# EAGLE library part STM32F407-VGT6 (library CPSS_CPU)
High-performance foundation line, Arm Cortex-M4 core with DSP and FPU, 1 Mbyte of Flash memory, 168 MHz CPU, ART Accelerator, Ethernet, FSMC
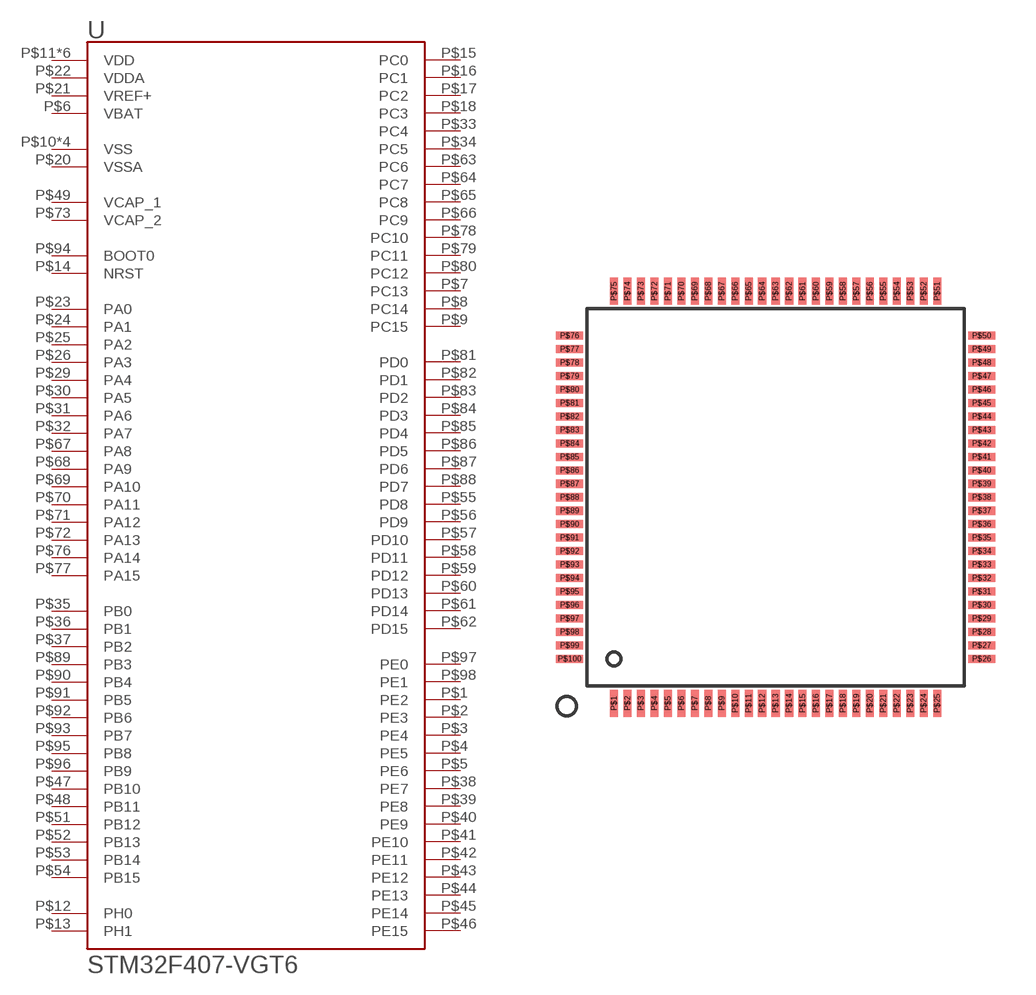
[diagram p5: symbol with the pads of LQFP-100; footprint LQFP-100]

Designator prefix U

## STM32F407-VGT6  [LQFP-100]
P$1  PE2
P$2  PE3
P$3  PE4
P$4  PE5
P$5  PE6
P$6  VBAT
P$7  PC13
P$8  PC14
P$9  PC15
P$10  VSS
P$11  VDD
P$12  PH0
P$13  PH1
P$14  NRST
P$15  PC0
P$16  PC1
P$17  PC2
P$18  PC3
P$19  VDD
P$20  VSSA
P$21  VREF+
P$22  VDDA
P$23  PA0
P$24  PA1
P$25  PA2
P$26  PA3
P$27  VSS
P$28  VDD
P$29  PA4
P$30  PA5
P$31  PA6
P$32  PA7
P$33  PC4
P$34  PC5
P$35  PB0
P$36  PB1
P$37  PB2
P$38  PE7
P$39  PE8
P$40  PE9
P$41  PE10
P$42  PE11
P$43  PE12
P$44  PE13
P$45  PE14
P$46  PE15
P$47  PB10
P$48  PB11
P$49  VCAP_1
P$50  VDD
P$51  PB12
P$52  PB13
P$53  PB14
P$54  PB15
P$55  PD8
P$56  PD9
P$57  PD10
P$58  PD11
P$59  PD12
P$60  PD13
P$61  PD14
P$62  PD15
P$63  PC6
P$64  PC7
P$65  PC8
P$66  PC9
P$67  PA8
P$68  PA9
P$69  PA10
P$70  PA11
P$71  PA12
P$72  PA13
P$73  VCAP_2
P$74  VSS
P$75  VDD
P$76  PA14
P$77  PA15
P$78  PC10
P$79  PC11
P$80  PC12
P$81  PD0
P$82  PD1
P$83  PD2
P$84  PD3
P$85  PD4
P$86  PD5
P$87  PD6
P$88  PD7
P$89  PB3
P$90  PB4
P$91  PB5
P$92  PB6
P$93  PB7
P$94  BOOT0
P$95  PB8
P$96  PB9
P$97  PE0
P$98  PE1
P$99  VSS
P$100  VDD

## Footprint LQFP-100 (pad centres in mm)
smd 0.3 x 1: P$1 -6,-7.65; P$2 -5.5,-7.65; P$3 -5,-7.65; P$4 -4.5,-7.65; P$5 -4,-7.65; P$6 -3.5,-7.65; P$7 -3,-7.65; P$8 -2.5,-7.65; P$9 -2,-7.65; P$10 -1.5,-7.65; P$11 -1,-7.65; P$12 -0.5,-7.65; P$13 0,-7.65; P$14 0.5,-7.65; P$15 1,-7.65; P$16 1.5,-7.65; P$17 2,-7.65; P$18 2.5,-7.65; P$19 3,-7.65; P$20 3.5,-7.65; P$21 4,-7.65; P$22 4.5,-7.65; P$23 5,-7.65; P$24 5.5,-7.65; P$25 6,-7.65; P$51 6,7.65; P$52 5.5,7.65; P$53 5,7.65; P$54 4.5,7.65; P$55 4,7.65; P$56 3.5,7.65; P$57 3,7.65; P$58 2.5,7.65; P$59 2,7.65; P$60 1.5,7.65; P$61 1,7.65; P$62 0.5,7.65; P$63 0,7.65; P$64 -0.5,7.65; P$65 -1,7.65; P$66 -1.5,7.65; P$67 -2,7.65; P$68 -2.5,7.65; P$69 -3,7.65; P$70 -3.5,7.65; P$71 -4,7.65; P$72 -4.5,7.65; P$73 -5,7.65; P$74 -5.5,7.65; P$75 -6,7.65
smd 1 x 0.3: P$26 7.65,-6; P$27 7.65,-5.5; P$28 7.65,-5; P$29 7.65,-4.5; P$30 7.65,-4; P$31 7.65,-3.5; P$32 7.65,-3; P$33 7.65,-2.5; P$34 7.65,-2; P$35 7.65,-1.5; P$36 7.65,-1; P$37 7.65,-0.5; P$38 7.65,0; P$39 7.65,0.5; P$40 7.65,1; P$41 7.65,1.5; P$42 7.65,2; P$43 7.65,2.5; P$44 7.65,3; P$45 7.65,3.5; P$46 7.65,4; P$47 7.65,4.5; P$48 7.65,5; P$49 7.65,5.5; P$50 7.65,6; P$76 -7.65,6; P$77 -7.65,5.5; P$78 -7.65,5; P$79 -7.65,4.5; P$80 -7.65,4; P$81 -7.65,3.5; P$82 -7.65,3; P$83 -7.65,2.5; P$84 -7.65,2; P$85 -7.65,1.5; P$86 -7.65,1; P$87 -7.65,0.5; P$88 -7.65,0; P$89 -7.65,-0.5; P$90 -7.65,-1; P$91 -7.65,-1.5; P$92 -7.65,-2; P$93 -7.65,-2.5; P$94 -7.65,-3; P$95 -7.65,-3.5; P$96 -7.65,-4; P$97 -7.65,-4.5; P$98 -7.65,-5; P$99 -7.65,-5.5; P$100 -7.65,-6